# EAGLE library part LSM9DS1TR_9_AXIS_IMU (library quadparts_brandon)
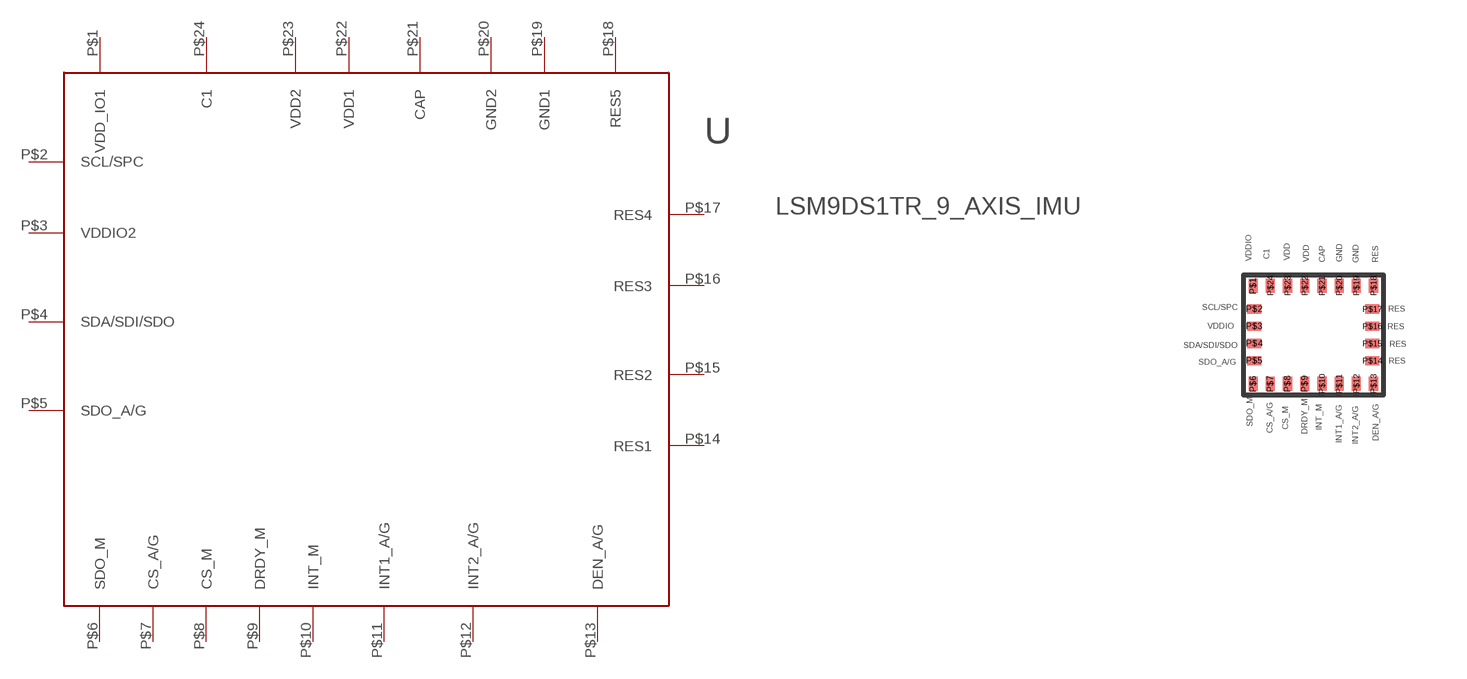
[diagram p0: symbol with the pads of LSM9DS1TR_9_AXIS_IMU; footprint LSM9DS1TR_9_AXIS_IMU]

Designator prefix -

## LSM9DS1TR_9_AXIS_IMU (CREATOR: Brandon Rahman; DIST: Digikey; DISTPN: 497-14946-1-ND; MFR: STMicroelectronics; MPN: LSM9DS1TR)  [LSM9DS1TR_9_AXIS_IMU]
P$1  VDD_IO1
P$2  SCL/SPC  in
P$3  VDDIO2  pwr
P$4  SDA/SDI/SDO
P$5  SDO_A/G
P$6  SDO_M
P$7  CS_A/G  in
P$8  CS_M  in
P$9  DRDY_M  out
P$10  INT_M  out
P$11  INT1_A/G  out
P$12  INT2_A/G  out
P$13  DEN_A/G  in
P$14  RES1  pas
P$15  RES2  pas
P$16  RES3  pas
P$17  RES4  pas
P$18  RES5  pas
P$19  GND1  pwr
P$20  GND2  pwr
P$21  CAP  pas
P$22  VDD1  pwr
P$23  VDD2  pwr
P$24  C1  pas

## Footprint LSM9DS1TR_9_AXIS_IMU (pad centres in mm)
smd 0.23 x 0.35: P$1 -1.505,1.225; P$6 -1.505,-1.225; P$7 -1.075,-1.225; P$8 -0.645,-1.225; P$9 -0.215,-1.225; P$10 0.215,-1.225; P$11 0.645,-1.225; P$12 1.075,-1.225; P$13 1.505,-1.225; P$18 1.505,1.225; P$19 1.075,1.225; P$20 0.645,1.225; P$21 0.215,1.225; P$22 -0.215,1.225; P$23 -0.645,1.225; P$24 -1.075,1.225
smd 0.35 x 0.23: P$2 -1.475,0.645; P$3 -1.475,0.215; P$4 -1.475,-0.215; P$5 -1.475,-0.645; P$14 1.475,-0.645; P$15 1.475,-0.215; P$16 1.475,0.215; P$17 1.475,0.645